# Altium footprint library con-weidmueller-sl35.PCBLIB: 184 footprints (part 8 of 12)
Each footprint in its own frame and in the unit in brackets; x right, y up, seen from the top. Pads: shape width x height; smd on the part's side, far side on the other; paste and mask are expansions set on the pad; w line width, h text height; cw(c..) or ccw(c..) is an arc to the next point about the centre after c.
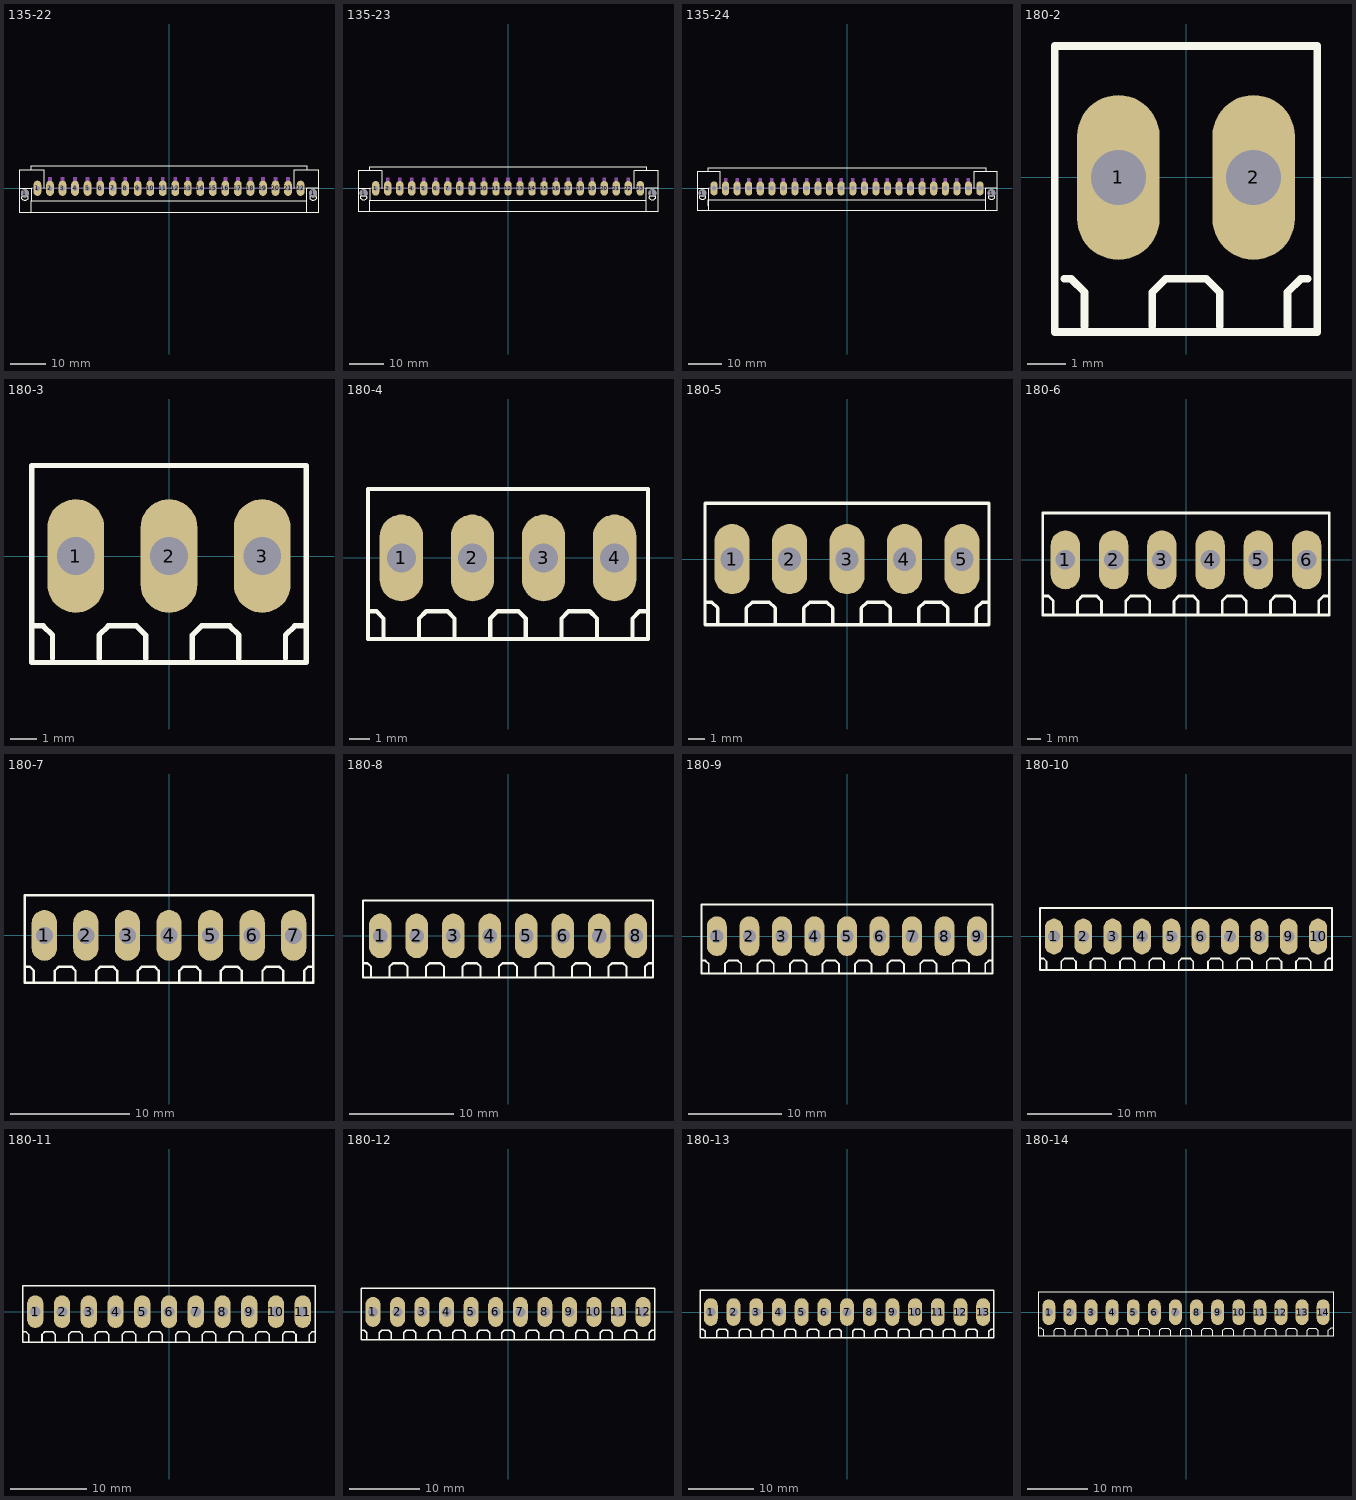
[diagram p7: the footprints below, top view; thin cyan lines are the x and y axes]

## 135-22 [mil]
pads (24):
  round 90.55 hole 90.55: 1(-1584.65,-55.12) 1(1584.65,-55.12)
  oval 84x168 hole 56: 1(-1446.85,0) 2(-1309.06,0) 3(-1171.26,0) 4(-1033.46,0) 5(-895.67,0) 6(-757.87,0) 7(-620.08,0) 8(-482.28,0) 9(-344.49,0) 10(-206.69,0) 11(-68.9,0) 12(68.9,0) 13(206.69,0) 14(344.49,0) 15(482.28,0) 16(620.08,0) 17(757.87,0) 18(895.67,0) 19(1033.46,0) 20(1171.26,0) 21(1309.06,0) 22(1446.85,0)
Top Overlay:
  lines w8: -1649.61,204.72 -1649.61,0 ; -1649.61,205.71 -1377.95,205.71 -1377.95,204.72 ; -1515.75,-261.81 -1515.75,-137.8 ; -1515.75,208.66 -1515.75,248.03 1515.75,248.03 1515.75,208.66 ; -1377.95,0 -1377.95,203.74 ; 1377.95,0 1377.95,203.74 ; 1377.95,204.72 1377.95,205.71 1649.61,205.71 ; 1515.75,-261.81 1515.75,-137.8 ; 1649.61,204.72 1649.61,0 ; -1649.61,0 -1649.61,-262.8 1649.61,-262.8 1649.61,0 ; -1649.61,0 -1515.75,0 -1515.75,-137.8 ; -1515.75,-137.8 1515.75,-137.8 ; 1515.75,-137.8 1515.75,0 1649.61,0 ; -1618.11,-116.14 cw(c-1608.27,-104.33) -1618.11,-92.52 cw(c-1584.64,-125.98) -1551.18,-92.52 cw(c-1561.02,-104.33) -1551.18,-116.14 cw(c-1584.64,-82.67) -1618.11,-116.14 ; 1551.18,-116.14 cw(c1561.02,-104.33) 1551.18,-92.52 cw(c1584.64,-125.98) 1618.11,-92.52 cw(c1608.27,-104.33) 1618.11,-116.14 cw(c1584.64,-82.67) 1551.18,-116.14
Mechanical 16:
  rectangle: -1329.72,0 -1288.39,124.02
  rectangle: -1191.93,0 -1150.59,124.02
  rectangle: -1054.13,0 -1012.8,124.02
  rectangle: -916.34,0 -875,124.02
  rectangle: -778.54,0 -737.2,124.02
  rectangle: -640.75,0 -599.41,124.02
  rectangle: -502.95,0 -461.61,124.02
  rectangle: -365.16,0 -323.82,124.02
  rectangle: -227.36,0 -186.02,124.02
  rectangle: -89.57,0 -48.23,124.02
  rectangle: 48.23,0 89.57,124.02
  rectangle: 186.02,0 227.36,124.02
  rectangle: 323.82,0 365.16,124.02
  rectangle: 461.61,0 502.95,124.02
  rectangle: 599.41,0 640.75,124.02
  rectangle: 737.2,0 778.54,124.02
  rectangle: 875,0 916.34,124.02
  rectangle: 1012.8,0 1054.13,124.02
  rectangle: 1150.59,0 1191.93,124.02
  rectangle: 1288.39,0 1329.72,124.02
  lines w8: -1515.75,0 1515.75,0

## 135-23 [mil]
pads (25):
  round 90.55 hole 90.55: 1(-1653.54,-55.12) 1(1653.54,-55.12)
  oval 84x168 hole 56: 1(-1515.75,0) 2(-1377.95,0) 3(-1240.16,0) 4(-1102.36,0) 5(-964.57,0) 6(-826.77,0) 7(-688.98,0) 8(-551.18,0) 9(-413.39,0) 10(-275.59,0) 11(-137.8,0) 12(0,0) 13(137.8,0) 14(275.59,0) 15(413.39,0) 16(551.18,0) 17(688.98,0) 18(826.77,0) 19(964.57,0) 20(1102.36,0) 21(1240.16,0) 22(1377.95,0) 23(1515.75,0)
Top Overlay:
  lines w8: -1718.5,204.72 -1718.5,0 ; -1718.5,205.71 -1446.85,205.71 -1446.85,204.72 ; -1584.65,-261.81 -1584.65,-137.8 ; -1584.65,208.66 -1584.65,248.03 1584.65,248.03 1584.65,208.66 ; -1446.85,0 -1446.85,203.74 ; 1446.85,0 1446.85,203.74 ; 1446.85,204.72 1446.85,205.71 1718.5,205.71 ; 1584.65,-261.81 1584.65,-137.8 ; 1718.5,204.72 1718.5,0 ; -1718.5,0 -1718.5,-262.8 1718.5,-262.8 1718.5,0 ; -1718.5,0 -1584.65,0 -1584.65,-137.8 ; -1584.65,-137.8 1584.65,-137.8 ; 1584.65,-137.8 1584.65,0 1718.5,0 ; -1687.01,-116.14 cw(c-1677.17,-104.33) -1687.01,-92.52 cw(c-1653.55,-125.98) -1620.08,-92.52 cw(c-1629.92,-104.33) -1620.08,-116.14 cw(c-1653.55,-82.67) -1687.01,-116.14 ; 1620.08,-116.14 cw(c1629.92,-104.33) 1620.08,-92.52 cw(c1653.55,-125.98) 1687.01,-92.52 cw(c1677.17,-104.33) 1687.01,-116.14 cw(c1653.55,-82.67) 1620.08,-116.14
Mechanical 16:
  rectangle: -1398.62,0 -1357.28,124.02
  rectangle: -1260.83,0 -1219.49,124.02
  rectangle: -1123.03,0 -1081.69,124.02
  rectangle: -985.24,0 -943.9,124.02
  rectangle: -847.44,0 -806.1,124.02
  rectangle: -709.65,0 -668.31,124.02
  rectangle: -571.85,0 -530.51,124.02
  rectangle: -434.06,0 -392.72,124.02
  rectangle: -296.26,0 -254.92,124.02
  rectangle: -158.46,0 -117.13,124.02
  rectangle: -20.67,0 20.67,124.02
  rectangle: 117.13,0 158.46,124.02
  rectangle: 254.92,0 296.26,124.02
  rectangle: 392.72,0 434.06,124.02
  rectangle: 530.51,0 571.85,124.02
  rectangle: 668.31,0 709.65,124.02
  rectangle: 806.1,0 847.44,124.02
  rectangle: 943.9,0 985.24,124.02
  rectangle: 1081.69,0 1123.03,124.02
  rectangle: 1219.49,0 1260.83,124.02
  rectangle: 1357.28,0 1398.62,124.02
  lines w8: -1584.65,0 1584.65,0

## 135-24 [mil]
pads (26):
  round 90.55 hole 90.55: 1(-1722.44,-55.12) 1(1722.44,-55.12)
  oval 84x168 hole 56: 1(-1584.65,0) 2(-1446.85,0) 3(-1309.06,0) 4(-1171.26,0) 5(-1033.46,0) 6(-895.67,0) 7(-757.87,0) 8(-620.08,0) 9(-482.28,0) 10(-344.49,0) 11(-206.69,0) 12(-68.9,0) 13(68.9,0) 14(206.69,0) 15(344.49,0) 16(482.28,0) 17(620.08,0) 18(757.87,0) 19(895.67,0) 20(1033.46,0) 21(1171.26,0) 22(1309.06,0) 23(1446.85,0) 24(1584.65,0)
Top Overlay:
  lines w8: -1787.4,204.72 -1787.4,0 ; -1787.4,205.71 -1515.75,205.71 -1515.75,204.72 ; -1653.54,-261.81 -1653.54,-206.69 ; -1653.54,208.66 -1653.54,248.03 1653.54,248.03 1653.54,208.66 ; -1515.75,0 -1515.75,203.74 ; 1515.75,0 1515.75,203.74 ; 1515.75,204.72 1515.75,205.71 1787.4,205.71 ; 1653.54,-261.81 1653.54,-137.8 ; 1787.4,204.72 1787.4,0 ; -1787.4,0 -1787.4,-262.8 1787.4,-262.8 1787.4,0 ; -1787.4,0 -1653.54,0 -1653.54,-206.69 ; -1653.54,-206.69 -1653.54,-137.8 1653.54,-137.8 ; 1653.54,-137.8 1653.54,0 1787.4,0 ; -1755.91,-116.14 cw(c-1746.07,-104.33) -1755.91,-92.52 cw(c-1722.44,-125.98) -1688.98,-92.52 cw(c-1698.82,-104.33) -1688.98,-116.14 cw(c-1722.44,-82.67) -1755.91,-116.14 ; 1688.98,-116.14 cw(c1698.82,-104.33) 1688.98,-92.52 cw(c1722.44,-125.98) 1755.91,-92.52 cw(c1746.07,-104.33) 1755.91,-116.14 cw(c1722.44,-82.67) 1688.98,-116.14
Mechanical 16:
  rectangle: -1467.52,0 -1426.18,124.02
  rectangle: -1329.72,0 -1288.39,124.02
  rectangle: -1191.93,0 -1150.59,124.02
  rectangle: -1054.13,0 -1012.8,124.02
  rectangle: -916.34,0 -875,124.02
  rectangle: -778.54,0 -737.2,124.02
  rectangle: -640.75,0 -599.41,124.02
  rectangle: -502.95,0 -461.61,124.02
  rectangle: -365.16,0 -323.82,124.02
  rectangle: -227.36,0 -186.02,124.02
  rectangle: -89.57,0 -48.23,124.02
  rectangle: 48.23,0 89.57,124.02
  rectangle: 186.02,0 227.36,124.02
  rectangle: 323.82,0 365.16,124.02
  rectangle: 461.61,0 502.95,124.02
  rectangle: 599.41,0 640.75,124.02
  rectangle: 737.2,0 778.54,124.02
  rectangle: 875,0 916.34,124.02
  rectangle: 1012.8,0 1054.13,124.02
  rectangle: 1150.59,0 1191.93,124.02
  rectangle: 1288.39,0 1329.72,124.02
  rectangle: 1426.18,0 1467.52,124.02
  lines w8: -1653.54,0 1653.54,0

## 180-2 [mil]
pads (2):
  oval 84x168 hole 56: 1(-68.9,0) 2(68.9,0)
Top Overlay:
  lines w8: -124.02,-103.35 -117.13,-103.35 -103.35,-117.13 -103.35,-151.57 ; -34.45,-151.57 -34.45,-117.13 -20.67,-103.35 20.67,-103.35 34.45,-117.13 34.45,-151.57 ; 103.35,-151.57 103.35,-117.13 117.13,-103.35 124.02,-103.35 ; -133.86,-157.48 133.86,-157.48 133.86,133.86 -133.86,133.86 -133.86,-157.48

## 180-3 [mil]
pads (3):
  oval 84x168 hole 56: 1(-137.8,0) 2(0,0) 3(137.8,0)
Top Overlay:
  lines w8: -199.8,-103.35 -186.02,-103.35 -172.24,-117.13 -172.24,-151.57 ; -103.35,-151.57 -103.35,-117.13 -89.57,-103.35 -48.23,-103.35 -34.45,-117.13 -34.45,-151.57 ; 34.45,-151.57 34.45,-117.13 48.23,-103.35 89.57,-103.35 103.35,-117.13 103.35,-151.57 ; 172.24,-151.57 172.24,-117.13 186.02,-103.35 199.8,-103.35 ; -202.76,-157.48 202.76,-157.48 202.76,133.86 -202.76,133.86 -202.76,-157.48

## 180-4 [mil]
pads (4):
  oval 84x168 hole 56: 1(-206.69,0) 2(-68.9,0) 3(68.9,0) 4(206.69,0)
Top Overlay:
  lines w8: -268.7,-103.35 -254.92,-103.35 -241.14,-117.13 -241.14,-151.57 ; -172.24,-151.57 -172.24,-117.13 -158.46,-103.35 -117.13,-103.35 -103.35,-117.13 -103.35,-151.57 ; -34.45,-151.57 -34.45,-117.13 -20.67,-103.35 20.67,-103.35 34.45,-117.13 34.45,-151.57 ; 103.35,-151.57 103.35,-117.13 117.13,-103.35 158.46,-103.35 172.24,-117.13 172.24,-151.57 ; 241.14,-151.57 241.14,-117.13 254.92,-103.35 268.7,-103.35 ; -271.65,-157.48 271.65,-157.48 271.65,133.86 -271.65,133.86 -271.65,-157.48

## 180-5 [mil]
pads (5):
  oval 84x168 hole 56: 1(-275.59,0) 2(-137.8,0) 3(0,0) 4(137.8,0) 5(275.59,0)
Top Overlay:
  lines w8: -337.6,-103.35 -323.82,-103.35 -310.04,-117.13 -310.04,-151.57 ; -241.14,-151.57 -241.14,-117.13 -227.36,-103.35 -186.02,-103.35 -172.24,-117.13 -172.24,-151.57 ; -103.35,-151.57 -103.35,-117.13 -89.57,-103.35 -48.23,-103.35 -34.45,-117.13 -34.45,-151.57 ; 34.45,-151.57 34.45,-117.13 48.23,-103.35 89.57,-103.35 103.35,-117.13 103.35,-151.57 ; 172.24,-151.57 172.24,-117.13 186.02,-103.35 227.36,-103.35 241.14,-117.13 241.14,-151.57 ; 310.04,-151.57 310.04,-117.13 323.82,-103.35 337.6,-103.35 ; -340.55,-157.48 340.55,-157.48 340.55,133.86 -340.55,133.86 -340.55,-157.48

## 180-6 [mil]
pads (6):
  oval 84x168 hole 56: 1(-344.49,0) 2(-206.69,0) 3(-68.9,0) 4(68.9,0) 5(206.69,0) 6(344.49,0)
Top Overlay:
  lines w8: -406.5,-103.35 -392.72,-103.35 -378.94,-117.13 -378.94,-151.57 ; -310.04,-151.57 -310.04,-117.13 -296.26,-103.35 -254.92,-103.35 -241.14,-117.13 -241.14,-151.57 ; -172.24,-151.57 -172.24,-117.13 -158.46,-103.35 -117.13,-103.35 -103.35,-117.13 -103.35,-151.57 ; -34.45,-151.57 -34.45,-117.13 -20.67,-103.35 20.67,-103.35 34.45,-117.13 34.45,-151.57 ; 103.35,-151.57 103.35,-117.13 117.13,-103.35 158.46,-103.35 172.24,-117.13 172.24,-151.57 ; 241.14,-151.57 241.14,-117.13 254.92,-103.35 296.26,-103.35 310.04,-117.13 310.04,-151.57 ; 378.94,-151.57 378.94,-117.13 392.72,-103.35 406.5,-103.35 ; -409.45,-157.48 409.45,-157.48 409.45,133.86 -409.45,133.86 -409.45,-157.48

## 180-7 [mil]
pads (7):
  oval 84x168 hole 56: 1(-413.39,0) 2(-275.59,0) 3(-137.8,0) 4(0,0) 5(137.8,0) 6(275.59,0) 7(413.39,0)
Top Overlay:
  lines w8: -475.39,-103.35 -461.61,-103.35 -447.83,-117.13 -447.83,-151.57 ; -378.94,-151.57 -378.94,-117.13 -365.16,-103.35 -323.82,-103.35 -310.04,-117.13 -310.04,-151.57 ; -241.14,-151.57 -241.14,-117.13 -227.36,-103.35 -186.02,-103.35 -172.24,-117.13 -172.24,-151.57 ; -103.35,-151.57 -103.35,-117.13 -89.57,-103.35 -48.23,-103.35 -34.45,-117.13 -34.45,-151.57 ; 34.45,-151.57 34.45,-117.13 48.23,-103.35 89.57,-103.35 103.35,-117.13 103.35,-151.57 ; 172.24,-151.57 172.24,-117.13 186.02,-103.35 227.36,-103.35 241.14,-117.13 241.14,-151.57 ; 310.04,-151.57 310.04,-117.13 323.82,-103.35 365.16,-103.35 378.94,-117.13 378.94,-151.57 ; 447.83,-151.57 447.83,-117.13 461.61,-103.35 475.39,-103.35 ; -478.35,-157.48 478.35,-157.48 478.35,133.86 -478.35,133.86 -478.35,-157.48

## 180-8 [mil]
pads (8):
  oval 84x168 hole 56: 1(-482.28,0) 2(-344.49,0) 3(-206.69,0) 4(-68.9,0) 5(68.9,0) 6(206.69,0) 7(344.49,0) 8(482.28,0)
Top Overlay:
  lines w8: -544.29,-103.35 -530.51,-103.35 -516.73,-117.13 -516.73,-151.57 ; -447.83,-151.57 -447.83,-117.13 -434.06,-103.35 -392.72,-103.35 -378.94,-117.13 -378.94,-151.57 ; -310.04,-151.57 -310.04,-117.13 -296.26,-103.35 -254.92,-103.35 -241.14,-117.13 -241.14,-151.57 ; -172.24,-151.57 -172.24,-117.13 -158.46,-103.35 -117.13,-103.35 -103.35,-117.13 -103.35,-151.57 ; -34.45,-151.57 -34.45,-117.13 -20.67,-103.35 20.67,-103.35 34.45,-117.13 34.45,-151.57 ; 103.35,-151.57 103.35,-117.13 117.13,-103.35 158.46,-103.35 172.24,-117.13 172.24,-151.57 ; 241.14,-151.57 241.14,-117.13 254.92,-103.35 296.26,-103.35 310.04,-117.13 310.04,-151.57 ; 378.94,-151.57 378.94,-117.13 392.72,-103.35 434.06,-103.35 447.83,-117.13 447.83,-151.57 ; 516.73,-151.57 516.73,-117.13 530.51,-103.35 544.29,-103.35 ; -547.24,-157.48 547.24,-157.48 547.24,133.86 -547.24,133.86 -547.24,-157.48

## 180-9 [mil]
pads (9):
  oval 84x168 hole 56: 1(-551.18,0) 2(-413.39,0) 3(-275.59,0) 4(-137.8,0) 5(0,0) 6(137.8,0) 7(275.59,0) 8(413.39,0) 9(551.18,0)
Top Overlay:
  lines w8: -613.19,-103.35 -599.41,-103.35 -585.63,-117.13 -585.63,-151.57 ; -516.73,-151.57 -516.73,-117.13 -502.95,-103.35 -461.61,-103.35 -447.83,-117.13 -447.83,-151.57 ; -378.94,-151.57 -378.94,-117.13 -365.16,-103.35 -323.82,-103.35 -310.04,-117.13 -310.04,-151.57 ; -241.14,-151.57 -241.14,-117.13 -227.36,-103.35 -186.02,-103.35 -172.24,-117.13 -172.24,-151.57 ; -103.35,-151.57 -103.35,-117.13 -89.57,-103.35 -48.23,-103.35 -34.45,-117.13 -34.45,-151.57 ; 34.45,-151.57 34.45,-117.13 48.23,-103.35 89.57,-103.35 103.35,-117.13 103.35,-151.57 ; 172.24,-151.57 172.24,-117.13 186.02,-103.35 227.36,-103.35 241.14,-117.13 241.14,-151.57 ; 310.04,-151.57 310.04,-117.13 323.82,-103.35 365.16,-103.35 378.94,-117.13 378.94,-151.57 ; 447.83,-151.57 447.83,-117.13 461.61,-103.35 502.95,-103.35 516.73,-117.13 516.73,-151.57 ; 585.63,-151.57 585.63,-117.13 599.41,-103.35 613.19,-103.35 ; -616.14,-157.48 616.14,-157.48 616.14,133.86 -616.14,133.86 -616.14,-157.48

## 180-10 [mil]
pads (10):
  oval 84x168 hole 56: 1(-620.08,0) 2(-482.28,0) 3(-344.49,0) 4(-206.69,0) 5(-68.9,0) 6(68.9,0) 7(206.69,0) 8(344.49,0) 9(482.28,0) 10(620.08,0)
Top Overlay:
  lines w8: -682.09,-103.35 -668.31,-103.35 -654.53,-117.13 -654.53,-151.57 ; -585.63,-151.57 -585.63,-117.13 -571.85,-103.35 -530.51,-103.35 -516.73,-117.13 -516.73,-151.57 ; -447.83,-151.57 -447.83,-117.13 -434.06,-103.35 -392.72,-103.35 -378.94,-117.13 -378.94,-151.57 ; -310.04,-151.57 -310.04,-117.13 -296.26,-103.35 -254.92,-103.35 -241.14,-117.13 -241.14,-151.57 ; -172.24,-151.57 -172.24,-117.13 -158.46,-103.35 -117.13,-103.35 -103.35,-117.13 -103.35,-151.57 ; -34.45,-151.57 -34.45,-117.13 -20.67,-103.35 20.67,-103.35 34.45,-117.13 34.45,-151.57 ; 103.35,-151.57 103.35,-117.13 117.13,-103.35 158.46,-103.35 172.24,-117.13 172.24,-151.57 ; 241.14,-151.57 241.14,-117.13 254.92,-103.35 296.26,-103.35 310.04,-117.13 310.04,-151.57 ; 378.94,-151.57 378.94,-117.13 392.72,-103.35 434.06,-103.35 447.83,-117.13 447.83,-151.57 ; 516.73,-151.57 516.73,-117.13 530.51,-103.35 571.85,-103.35 585.63,-117.13 585.63,-151.57 ; 654.53,-151.57 654.53,-117.13 668.31,-103.35 682.09,-103.35 ; -685.04,-157.48 685.04,-157.48 685.04,133.86 -685.04,133.86 -685.04,-157.48

## 180-11 [mil]
pads (11):
  oval 84x168 hole 56: 1(-688.98,0) 2(-551.18,0) 3(-413.39,0) 4(-275.59,0) 5(-137.8,0) 6(0,0) 7(137.8,0) 8(275.59,0) 9(413.39,0) 10(551.18,0) 11(688.98,0)
Top Overlay:
  lines w8: -750.98,-103.35 -737.2,-103.35 -723.43,-117.13 -723.43,-151.57 ; -654.53,-151.57 -654.53,-117.13 -640.75,-103.35 -599.41,-103.35 -585.63,-117.13 -585.63,-151.57 ; -516.73,-151.57 -516.73,-117.13 -502.95,-103.35 -461.61,-103.35 -447.83,-117.13 -447.83,-151.57 ; -378.94,-151.57 -378.94,-117.13 -365.16,-103.35 -323.82,-103.35 -310.04,-117.13 -310.04,-151.57 ; -241.14,-151.57 -241.14,-117.13 -227.36,-103.35 -186.02,-103.35 -172.24,-117.13 -172.24,-151.57 ; -103.35,-151.57 -103.35,-117.13 -89.57,-103.35 -48.23,-103.35 -34.45,-117.13 -34.45,-151.57 ; 34.45,-151.57 34.45,-117.13 48.23,-103.35 89.57,-103.35 103.35,-117.13 103.35,-151.57 ; 172.24,-151.57 172.24,-117.13 186.02,-103.35 227.36,-103.35 241.14,-117.13 241.14,-151.57 ; 310.04,-151.57 310.04,-117.13 323.82,-103.35 365.16,-103.35 378.94,-117.13 378.94,-151.57 ; 447.83,-151.57 447.83,-117.13 461.61,-103.35 502.95,-103.35 516.73,-117.13 516.73,-151.57 ; 585.63,-151.57 585.63,-117.13 599.41,-103.35 640.75,-103.35 654.53,-117.13 654.53,-151.57 ; 723.43,-151.57 723.43,-117.13 737.2,-103.35 750.98,-103.35 ; -753.94,-157.48 753.94,-157.48 753.94,133.86 -753.94,133.86 -753.94,-157.48

## 180-12 [mil]
pads (12):
  oval 84x168 hole 56: 1(-757.87,0) 2(-620.08,0) 3(-482.28,0) 4(-344.49,0) 5(-206.69,0) 6(-68.9,0) 7(68.9,0) 8(206.69,0) 9(344.49,0) 10(482.28,0) 11(620.08,0) 12(757.87,0)
Top Overlay:
  lines w8: -819.88,-103.35 -806.1,-103.35 -792.32,-117.13 -792.32,-151.57 ; -723.43,-151.57 -723.43,-117.13 -709.65,-103.35 -668.31,-103.35 -654.53,-117.13 -654.53,-151.57 ; -585.63,-151.57 -585.63,-117.13 -571.85,-103.35 -530.51,-103.35 -516.73,-117.13 -516.73,-151.57 ; -447.83,-151.57 -447.83,-117.13 -434.06,-103.35 -392.72,-103.35 -378.94,-117.13 -378.94,-151.57 ; -310.04,-151.57 -310.04,-117.13 -296.26,-103.35 -254.92,-103.35 -241.14,-117.13 -241.14,-151.57 ; -172.24,-151.57 -172.24,-117.13 -158.46,-103.35 -117.13,-103.35 -103.35,-117.13 -103.35,-151.57 ; -34.45,-151.57 -34.45,-117.13 -20.67,-103.35 20.67,-103.35 34.45,-117.13 34.45,-151.57 ; 103.35,-151.57 103.35,-117.13 117.13,-103.35 158.46,-103.35 172.24,-117.13 172.24,-151.57 ; 241.14,-151.57 241.14,-117.13 254.92,-103.35 296.26,-103.35 310.04,-117.13 310.04,-151.57 ; 378.94,-151.57 378.94,-117.13 392.72,-103.35 434.06,-103.35 447.83,-117.13 447.83,-151.57 ; 516.73,-151.57 516.73,-117.13 530.51,-103.35 571.85,-103.35 585.63,-117.13 585.63,-151.57 ; 654.53,-151.57 654.53,-117.13 668.31,-103.35 709.65,-103.35 723.43,-117.13 723.43,-151.57 ; 792.32,-151.57 792.32,-117.13 806.1,-103.35 819.88,-103.35 ; -822.83,-157.48 822.83,-157.48 822.83,133.86 -822.83,133.86 -822.83,-157.48

## 180-13 [mil]
pads (13):
  oval 84x168 hole 56: 1(-826.77,0) 2(-688.98,0) 3(-551.18,0) 4(-413.39,0) 5(-275.59,0) 6(-137.8,0) 7(0,0) 8(137.8,0) 9(275.59,0) 10(413.39,0) 11(551.18,0) 12(688.98,0) 13(826.77,0)
Top Overlay:
  lines w8: -888.78,-103.35 -875,-103.35 -861.22,-117.13 -861.22,-151.57 ; -792.32,-151.57 -792.32,-117.13 -778.54,-103.35 -737.2,-103.35 -723.43,-117.13 -723.43,-151.57 ; -654.53,-151.57 -654.53,-117.13 -640.75,-103.35 -599.41,-103.35 -585.63,-117.13 -585.63,-151.57 ; -516.73,-151.57 -516.73,-117.13 -502.95,-103.35 -461.61,-103.35 -447.83,-117.13 -447.83,-151.57 ; -378.94,-151.57 -378.94,-117.13 -365.16,-103.35 -323.82,-103.35 -310.04,-117.13 -310.04,-151.57 ; -241.14,-151.57 -241.14,-117.13 -227.36,-103.35 -186.02,-103.35 -172.24,-117.13 -172.24,-151.57 ; -103.35,-151.57 -103.35,-117.13 -89.57,-103.35 -48.23,-103.35 -34.45,-117.13 -34.45,-151.57 ; 34.45,-151.57 34.45,-117.13 48.23,-103.35 89.57,-103.35 103.35,-117.13 103.35,-151.57 ; 172.24,-151.57 172.24,-117.13 186.02,-103.35 227.36,-103.35 241.14,-117.13 241.14,-151.57 ; 310.04,-151.57 310.04,-117.13 323.82,-103.35 365.16,-103.35 378.94,-117.13 378.94,-151.57 ; 447.83,-151.57 447.83,-117.13 461.61,-103.35 502.95,-103.35 516.73,-117.13 516.73,-151.57 ; 585.63,-151.57 585.63,-117.13 599.41,-103.35 640.75,-103.35 654.53,-117.13 654.53,-151.57 ; 723.43,-151.57 723.43,-117.13 737.2,-103.35 778.54,-103.35 792.32,-117.13 792.32,-151.57 ; 861.22,-151.57 861.22,-117.13 875,-103.35 888.78,-103.35 ; -891.73,-157.48 891.73,-157.48 891.73,133.86 -891.73,133.86 -891.73,-157.48

## 180-14 [mil]
pads (14):
  oval 84x168 hole 56: 1(-895.67,0) 2(-757.87,0) 3(-620.08,0) 4(-482.28,0) 5(-344.49,0) 6(-206.69,0) 7(-68.9,0) 8(68.9,0) 9(206.69,0) 10(344.49,0) 11(482.28,0) 12(620.08,0) 13(757.87,0) 14(895.67,0)
Top Overlay:
  lines w8: -957.68,-103.35 -943.9,-103.35 -930.12,-117.13 -930.12,-151.57 ; -861.22,-151.57 -861.22,-117.13 -847.44,-103.35 -806.1,-103.35 -792.32,-117.13 -792.32,-151.57 ; -723.43,-151.57 -723.43,-117.13 -709.65,-103.35 -668.31,-103.35 -654.53,-117.13 -654.53,-151.57 ; -585.63,-151.57 -585.63,-117.13 -571.85,-103.35 -530.51,-103.35 -516.73,-117.13 -516.73,-151.57 ; -447.83,-151.57 -447.83,-117.13 -434.06,-103.35 -392.72,-103.35 -378.94,-117.13 -378.94,-151.57 ; -310.04,-151.57 -310.04,-117.13 -296.26,-103.35 -254.92,-103.35 -241.14,-117.13 -241.14,-151.57 ; -172.24,-151.57 -172.24,-117.13 -158.46,-103.35 -117.13,-103.35 -103.35,-117.13 -103.35,-151.57 ; -34.45,-151.57 -34.45,-117.13 -20.67,-103.35 20.67,-103.35 34.45,-117.13 34.45,-151.57 ; 103.35,-151.57 103.35,-117.13 117.13,-103.35 158.46,-103.35 172.24,-117.13 172.24,-151.57 ; 241.14,-151.57 241.14,-117.13 254.92,-103.35 296.26,-103.35 310.04,-117.13 310.04,-151.57 ; 378.94,-151.57 378.94,-117.13 392.72,-103.35 434.06,-103.35 447.83,-117.13 447.83,-151.57 ; 516.73,-151.57 516.73,-117.13 530.51,-103.35 571.85,-103.35 585.63,-117.13 585.63,-151.57 ; 654.53,-151.57 654.53,-117.13 668.31,-103.35 709.65,-103.35 723.43,-117.13 723.43,-151.57 ; 792.32,-151.57 792.32,-117.13 806.1,-103.35 847.44,-103.35 861.22,-117.13 861.22,-151.57 ; 930.12,-151.57 930.12,-117.13 943.9,-103.35 957.68,-103.35 ; -960.63,-157.48 960.63,-157.48 960.63,133.86 -960.63,133.86 -960.63,-157.48